# EAGLE library part MAX309* (library skipzone)
±15kV ESD-Protected, 10Mbps, 3V/5V, Quad RS-422/RS-485 Receivers Source: http://pdfserv.maxim-ic.com/en/ds/MAX3095-MAX3096.pdf
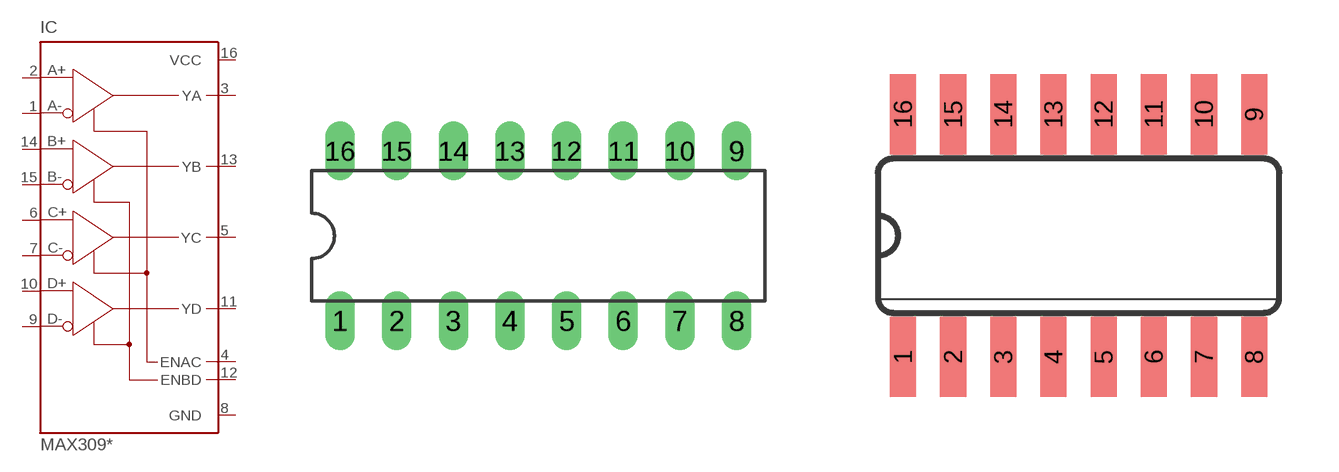
[diagram p2: symbol with the pads of DIL16; footprints DIL16, SO16]

Designator prefix IC

## MAX3093ECPE (MF: MAXIM; MPN: MAX3093EC+), MAX3093EEPE (MF: MAXIM; MPN: MAX3093EE+), MAX3094ECPE (MF: MAXIM; MPN: MAX3094EC+), MAX3094EEPE (MF: MAXIM; MPN: MAX3094EE+)  [DIL16]
1  A-  out
2  A+  out
3  YA  out
4  ENAC  in
5  YC  out
6  C+  out
7  C-  out
8  GND  pwr
9  D-  out
10  D+  out
11  YD  out
12  ENBD  in
13  YB  out
14  B+  out
15  B-  out
16  VCC  out

## MAX3093ECSE (MF: MAXIM; MPN: MAX3093ECSE), MAX3093EESE (MF: MAXIM; MPN: MAX3093EESE), MAX3094ECSE (MF: MAXIM; MPN: MAX3094ECSE), MAX3094EESE (MF: MAXIM; MPN: MAX3094EESE)  [SO16]
Pads as for DIL16

## Footprint DIL16 (pad centres in mm)
Dual In Line Package
drill 0.813 long: 1 -8.89,-3.81; 2 -6.35,-3.81; 3 -3.81,-3.81; 4 -1.27,-3.81; 5 1.27,-3.81; 6 3.81,-3.81; 7 6.35,-3.81; 8 8.89,-3.81; 9 8.89,3.81; 10 6.35,3.81; 11 3.81,3.81; 12 1.27,3.81; 13 -1.27,3.81; 14 -3.81,3.81; 15 -6.35,3.81; 16 -8.89,3.81

## Footprint SO16 (pad centres in mm)
Small Outline Package .150 SIOC Source: http://www.maxim-ic.com/package_drawings/21-0041B.pdf
smd 0.66 x 2.032: 1 -4.445,-3.073; 2 -3.175,-3.073; 3 -1.905,-3.073; 4 -0.635,-3.073; 5 0.635,-3.073; 6 1.905,-3.073; 7 3.175,-3.073; 8 4.445,-3.073; 9 4.445,3.073; 10 3.175,3.073; 11 1.905,3.073; 12 0.635,3.073; 13 -0.635,3.073; 14 -1.905,3.073; 15 -3.175,3.073; 16 -4.445,3.073